# Altium schematic symbol library MAX11625EEG&plus_.SchLib: 2 symbols
Pins are listed as number, name and electrical type; pins without a type are passive.

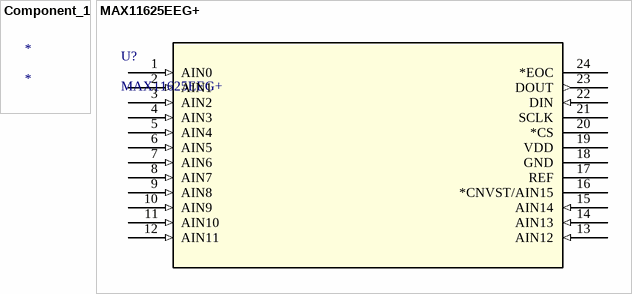
[diagram p0: symbols Component_1 to MAX11625EEG+]

## Component_1
designator *

## MAX11625EEG+
designator U?
No Description Available; Mfr_Name: Maxim Integrated Products; Copyright: Copyright (C) 2022 Ultra Librarian. All rights reserved.; Manufacturer_Part_Number: MAX11625EEG+; RefDes: RefDes; Type: DEV
footprint 21-0055H_24_MXM
pins: 1 AIN0 (in), 2 AIN1 (in), 3 AIN2 (in), 4 AIN3 (in), 5 AIN4 (in), 6 AIN5 (in), 7 AIN6 (in), 8 AIN7 (in), 9 AIN8 (in), 10 AIN9 (in), 11 AIN10 (in), 12 AIN11 (in), 13 AIN12 (in), 14 AIN13 (in), 15 AIN14 (in), 16 *CNVST/AIN15, 17 REF, 18 GND, 19 VDD, 20 *CS, 21 SCLK, 22 DIN (in), 23 DOUT (out), 24 *EOC